# Altium footprint library Pcb Library.PcbLib: 3 footprints
Each footprint in its own frame and in the unit in brackets; x right, y up, seen from the top. Pads: shape width x height; smd on the part's side, far side on the other; paste and mask are expansions set on the pad; w line width, h text height; cw(c..) or ccw(c..) is an arc to the next point about the centre after c.
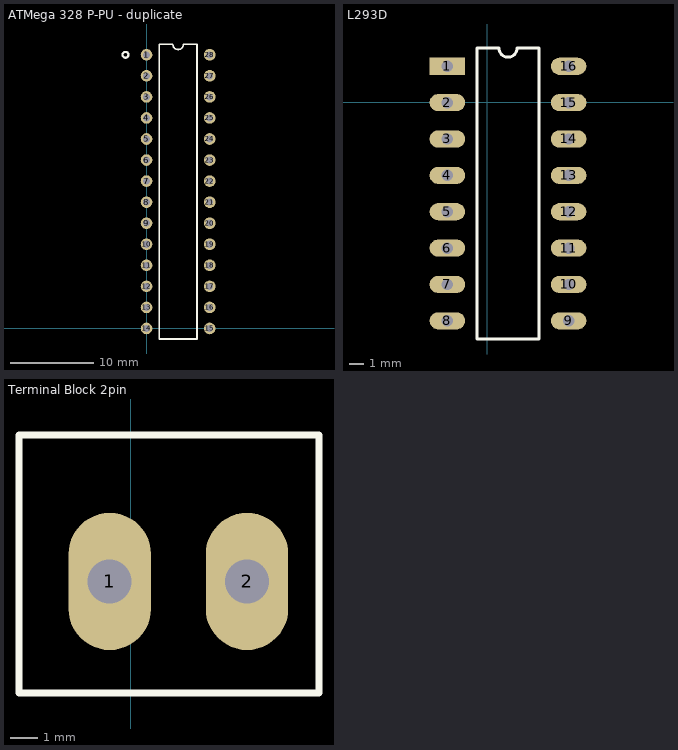
[diagram p0: the footprints below, top view; thin cyan lines are the x and y axes]

## ATMega 328 P-PU - duplicate [mm]
pads (28):
  round 1.4 hole 0.85: 1(0,33.02) 2(0,30.48) 3(0,27.94) 4(0,25.4) 5(0,22.86) 6(0,20.32) 7(0,17.78) 8(0,15.24) 9(0,12.7) 10(0,10.16) 11(0,7.62) 12(0,5.08) 13(0,2.54) 14(0,0) 15(7.62,0) 16(7.62,2.54) 17(7.62,5.08) 18(7.62,7.62) 19(7.62,10.16) 20(7.62,12.7) 21(7.62,15.24) 22(7.62,17.78) 23(7.62,20.32) 24(7.62,22.86) 25(7.62,25.4) 26(7.62,27.94) 27(7.62,30.48) 28(7.62,33.02)
Top Overlay:
  circle w0.254: c-2.54,33.02 r0.359
  lines w0.2: 1.535,-1.27 6.085,-1.27 6.085,34.29 4.445,34.29 cw(c3.81,34.29) 3.175,34.29 1.535,34.29 1.535,-1.27
3D body "ATMEGA328P-PU--3DModel-STEP-56544.STEP": height 4.57, standoff -3.43, extent -0.14,-0.826 7.76,33.846

## L293D [mm]
pads (16):
  rect 2.5x1.2 hole 0.8: 1(-2.794,2.54)
  oval 2.5x1.2 hole 0.8: 2(-2.794,-0.01) 3(-2.794,-2.56) 4(-2.794,-5.11) 5(-2.794,-7.66) 6(-2.794,-10.21) 7(-2.794,-12.76) 8(-2.794,-15.31) 9(5.706,-15.31) 10(5.706,-12.76) 11(5.706,-10.21) 12(5.706,-7.66) 13(5.706,-5.11) 14(5.706,-2.56) 15(5.706,-0.01) 16(5.706,2.54)
Top Overlay:
  lines w0.2: -0.709,-16.585 3.621,-16.585 3.621,3.815 2.093,3.815 cw(c1.456,3.815) 0.818,3.815 -0.709,3.815 -0.709,-16.585
3D body "L293D--3DModel-STEP-418109.STEP": height 5.1, standoff -3.3, extent -3.302,-16.444 5.939,3.556

## Terminal Block 2pin [mm]
pads (2):
  oval 3x5 hole 1.6: 1(-0.762,9.144) 2(4.238,9.144)
Top Overlay:
  lines w0.254: -4.064,5.08 -4.064,14.478 6.858,14.478 6.858,5.08 -4.064,5.08
3D body "OSTTA020161--3DModel-STEP-56544.STEP": height 12.6, standoff -3.8, extent -3.903,5.224 6.697,14.224